# Altium integrated library Linear Technology Power Management Switching Regulator LTC1174-LTC3901.IntLib: 2647 symbols (part 121 of 364)
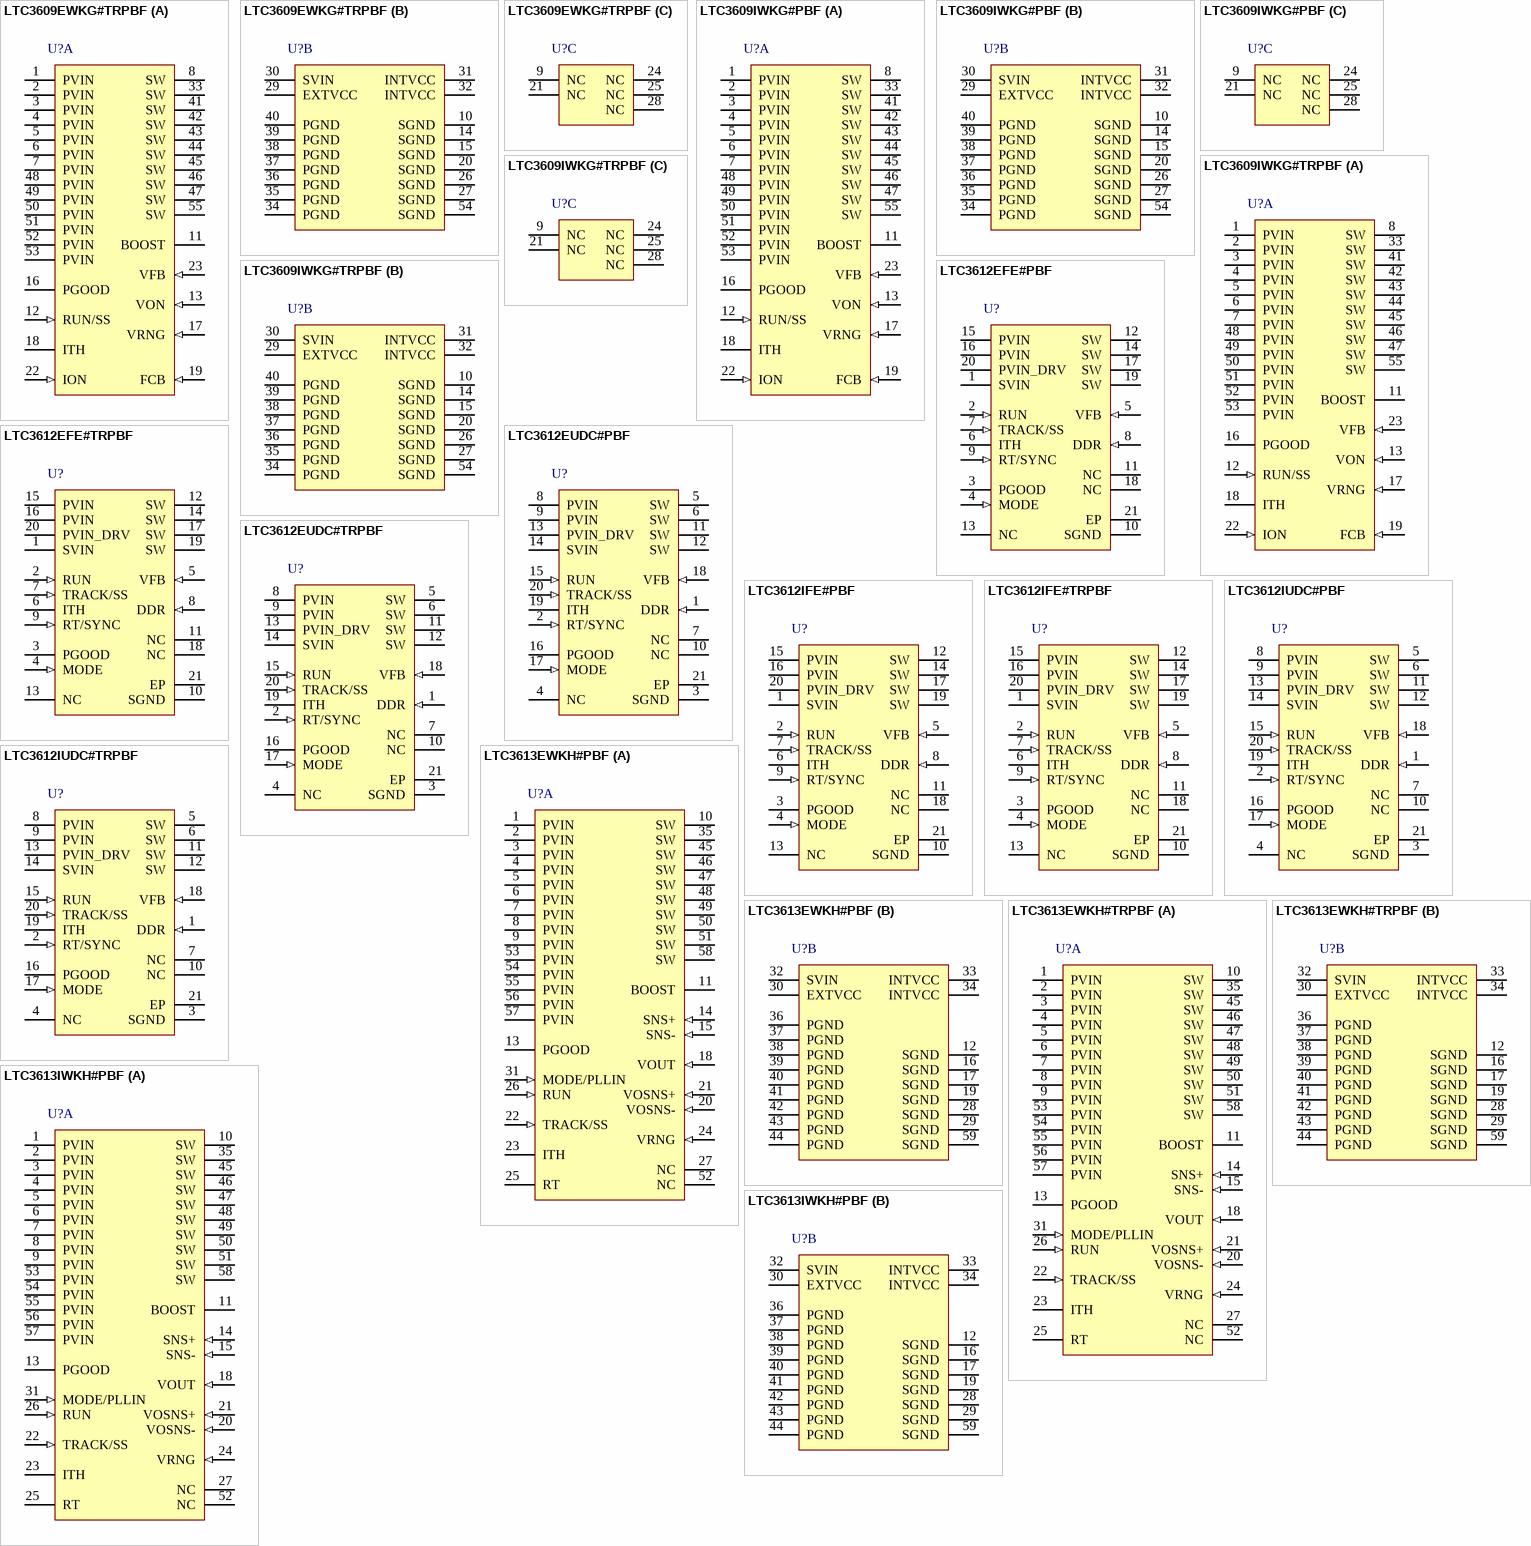
[diagram p177: symbols LTC3609EWKG#TRPBF to LTC3613IWKH#PBF]

## LTC3613EWKH#TRPBF
designator U?
15 A Monolithic Step Down Regulator with Differential Output Sensing, 56-pin QFN (WKH-56), -40 to 125 degC, Pb-Free, Tape and Reel; Manufacturer: Linear Technology; PartNumber: LTC3613EWKH#TRPBF; Frequency Adjust Range: 200kHz - 1MHz; Number of Outputs: 1; DatasheetVersion: Rev. A; PackageVersion: Rev. Ø, 03/2012; PackageReference: WKH-56; PackageDescription: 56-Pin QFN Multipad, Body 9 x 7 mm, Pitch 0.5 mm; Supplier 1: Digi-Key; Supplier Part Number 1: LTC3613EWKH#TRPBF-ND; Packing: Tape and Reel; RoHS: TRUE; Mounting Technology: Surface Mount; Code_JEDEC: SPP-002; ComponentLink1Description: Manufacturer URL; ComponentLink1URL: http://www.linear.com/; ComponentLink2Description: Datasheet; ComponentLink2URL: http://cds.linear.com/docs/en/datasheet/3613fa.pdf; ComponentLink3Description: Package Specification; ComponentLink3URL: http://cds.linear.com/docs/en/packaging/(WKH%2056)%20QFN%2005-08-1870%20Rev%20%C3%98.pdf
footprint LT-WKH-56_V (QFN, 56-Leads, Body 9x7mm, Pitch 0.5mm)
part A pins: 1 PVIN (power) "Power Supply Inputs. These pins connect to the drain of the internal power MOSFETS. The PVIN exposed pad must be soldered to the circuit board for electrical contact and rated thermal performance. The supply voltage can (See Datasheet)", 2 PVIN (power) "Power Supply Inputs. These pins connect to the drain of the internal power MOSFETS. The PVIN exposed pad must be soldered to the circuit board for electrical contact and rated thermal performance. The supply voltage can (See Datasheet)", 3 PVIN (power) "Power Supply Inputs. These pins connect to the drain of the internal power MOSFETS. The PVIN exposed pad must be soldered to the circuit board for electrical contact and rated thermal performance. The supply voltage can (See Datasheet)", 4 PVIN (power) "Power Supply Inputs. These pins connect to the drain of the internal power MOSFETS. The PVIN exposed pad must be soldered to the circuit board for electrical contact and rated thermal performance. The supply voltage can (See Datasheet)", 5 PVIN (power) "Power Supply Inputs. These pins connect to the drain of the internal power MOSFETS. The PVIN exposed pad must be soldered to the circuit board for electrical contact and rated thermal performance. The supply voltage can (See Datasheet)", 6 PVIN (power) "Power Supply Inputs. These pins connect to the drain of the internal power MOSFETS. The PVIN exposed pad must be soldered to the circuit board for electrical contact and rated thermal performance. The supply voltage can (See Datasheet)", 7 PVIN (power) "Power Supply Inputs. These pins connect to the drain of the internal power MOSFETS. The PVIN exposed pad must be soldered to the circuit board for electrical contact and rated thermal performance. The supply voltage can (See Datasheet)", 8 PVIN (power) "Power Supply Inputs. These pins connect to the drain of the internal power MOSFETS. The PVIN exposed pad must be soldered to the circuit board for electrical contact and rated thermal performance. The supply voltage can (See Datasheet)", 9 PVIN (power) "Power Supply Inputs. These pins connect to the drain of the internal power MOSFETS. The PVIN exposed pad must be soldered to the circuit board for electrical contact and rated thermal performance. The supply voltage can (See Datasheet)", 10 SW (power) "Switch Node Connection. The (-) terminal of the bootstrap capacitor, CB, connects to this node. This pin swings from a diode voltage below ground up to VIN. The SW exposed pad must be soldered to the circuit board for (See Datasheet)", 11 BOOST "Boosted Driver Supply Connection. The (+) terminal of the bootstrap capacitor, CB, as well as the cathode of the Schottky diode, DB, connects to this node. This node swings from INTVCC - VSCHOTTKY to VIN + INTVCC - VSCHOTTKY.", 13 PGOOD (oc) "Power Good Indicator Output. This open-drain logic output is pulled to ground when the output voltage is outside of a +/-7.5% window around the regulation point.", 14 SNS+ (in) "Differential Current Sensing (+) Input. For RSENSE current sensing, Kelvin (4-wire) connect SENSE+ and SENSE- pins across the sense resistor. For DCR sensing, Kelvin connect SENSE+ and SENSE- pins across the sense filter (See Datasheet)", 15 SNS- (in) "Differential Current Sensing (-) Input. For RSENSE current sensing, Kelvin (4-wire) connect the SENSE+ and SENSE- pins across the sense resistor. For DCR sensing, Kelvin connect the SENSE+ and SENSE- pins across the sense (See Datasheet)", 18 VOUT (in) "Output voltage sense for adjusting the on-time for constant frequency operation. Tying this pin to the local output (instead of the remote output) is recommended for most applications. This pin can be programmed as needed (See Datasheet)", 20 VOSNS- (in) "Differential Output Sensing (-) Input. Connect this pin to the negative terminal of the output capacitor. There is a bias current of 35uA (typical) flowing out of this pin.", 21 VOSNS+ (in) "Differential Output Sensing (+) Input. Connect this pin to the feedback resistor divider between the positive and negative output capacitor terminals. In normal operation the LTC3613 will regulate the differential output (See Datasheet)", 22 TRACK/SS (in) "External Tracking and Soft-Start Input. The LTC3613 regulates the differential feedback voltage (VOSNS + - VOSNS -) to the smaller of 0.6V or the voltage on the TRACK/SS pin. An internal 1.0uA pull-up current source i(See Datasheet)", 23 ITH "Current Control Voltage and Switching Regulator Compensation Point. The current sense threshold increases with this control voltage which ranges from 0V to 2.4V.", 24 VRNG (in) "Current Sense Voltage Range Input. The maximum allowed sense voltage between SENSE+ and SENSE- is equal to 0.05 ? VRNG. If VRNG is tied to SGND, the device operates with a maximum sense voltage of 30mV. If VRNG is tied t(See Datasheet)", 25 RT "Switching Frequency Programming Pin. Connect an external resistor from RT to signal ground to program the switching frequency between 200kHz and 1MHz. An external clock applied to MODE/PLLIN must be within +/-30% of this (See Datasheet)", 26 RUN (in) "Digital Run Control Input. RUN self biases high with an internal 1.3uA pull-up. Forcing RUN below 1.2V disables switching. Taking RUN below 0.75V shuts down all bias and places the LTC3613 into micropower shutdown mode of (See Datasheet)", 27 NC, 31 MODE/PLLIN (in) "External Clock Synchronization Input and/or Forced Continuous Mode Input. When an external clock is applied to this pin, the rising switching cycle will be synchronized with the rising edge of the external clock. (See Datasheet)", 35 SW (power) "Switch Node Connection. The (-) terminal of the bootstrap capacitor, CB, connects to this node. This pin swings from a diode voltage below ground up to VIN. The SW exposed pad must be soldered to the circuit board for (See Datasheet)", 45 SW (power) "Switch Node Connection. The (-) terminal of the bootstrap capacitor, CB, connects to this node. This pin swings from a diode voltage below ground up to VIN. The SW exposed pad must be soldered to the circuit board for (See Datasheet)", 46 SW (power) "Switch Node Connection. The (-) terminal of the bootstrap capacitor, CB, connects to this node. This pin swings from a diode voltage below ground up to VIN. The SW exposed pad must be soldered to the circuit board for (See Datasheet)", 47 SW (power) "Switch Node Connection. The (-) terminal of the bootstrap capacitor, CB, connects to this node. This pin swings from a diode voltage below ground up to VIN. The SW exposed pad must be soldered to the circuit board for (See Datasheet)", 48 SW (power) "Switch Node Connection. The (-) terminal of the bootstrap capacitor, CB, connects to this node. This pin swings from a diode voltage below ground up to VIN. The SW exposed pad must be soldered to the circuit board for (See Datasheet)", 49 SW (power) "Switch Node Connection. The (-) terminal of the bootstrap capacitor, CB, connects to this node. This pin swings from a diode voltage below ground up to VIN. The SW exposed pad must be soldered to the circuit board for (See Datasheet)", 50 SW (power) "Switch Node Connection. The (-) terminal of the bootstrap capacitor, CB, connects to this node. This pin swings from a diode voltage below ground up to VIN. The SW exposed pad must be soldered to the circuit board for (See Datasheet)", 51 SW (power) "Switch Node Connection. The (-) terminal of the bootstrap capacitor, CB, connects to this node. This pin swings from a diode voltage below ground up to VIN. The SW exposed pad must be soldered to the circuit board for (See Datasheet)", 52 NC, 53 PVIN (power) "Power Supply Inputs. These pins connect to the drain of the internal power MOSFETS. The PVIN exposed pad must be soldered to the circuit board for electrical contact and rated thermal performance. The supply voltage can (See Datasheet)", 54 PVIN (power) "Power Supply Inputs. These pins connect to the drain of the internal power MOSFETS. The PVIN exposed pad must be soldered to the circuit board for electrical contact and rated thermal performance. The supply voltage can (See Datasheet)", 55 PVIN (power) "Power Supply Inputs. These pins connect to the drain of the internal power MOSFETS. The PVIN exposed pad must be soldered to the circuit board for electrical contact and rated thermal performance. The supply voltage can (See Datasheet)", 56 PVIN (power) "Power Supply Inputs. These pins connect to the drain of the internal power MOSFETS. The PVIN exposed pad must be soldered to the circuit board for electrical contact and rated thermal performance. The supply voltage can (See Datasheet)", 57 PVIN (power) "Power Supply Inputs. These pins connect to the drain of the internal power MOSFETS. The PVIN exposed pad must be soldered to the circuit board for electrical contact and rated thermal performance. The supply voltage can (See Datasheet)", 58 SW (power) "Switch Node Connection. The (-) terminal of the bootstrap capacitor, CB, connects to this node. This pin swings from a diode voltage below ground up to VIN. The SW exposed pad must be soldered to the circuit board for (See Datasheet)"
part B pins: 12 SGND (power) "Signal Ground Connection. The SGND exposed pad must be soldered to the circuit board for electrical contact and rated thermal performance. All small-signal components should be connected to the signal ground. Connect signal (See Datasheet)", 16 SGND (power) "Signal Ground Connection. The SGND exposed pad must be soldered to the circuit board for electrical contact and rated thermal performance. All small-signal components should be connected to the signal ground. Connect signal (See Datasheet)", 17 SGND (power) "Signal Ground Connection. The SGND exposed pad must be soldered to the circuit board for electrical contact and rated thermal performance. All small-signal components should be connected to the signal ground. Connect signal (See Datasheet)", 19 SGND (power) "Signal Ground Connection. The SGND exposed pad must be soldered to the circuit board for electrical contact and rated thermal performance. All small-signal components should be connected to the signal ground. Connect signal (See Datasheet)", 28 SGND (power) "Signal Ground Connection. The SGND exposed pad must be soldered to the circuit board for electrical contact and rated thermal performance. All small-signal components should be connected to the signal ground. Connect signal (See Datasheet)", 29 SGND (power) "Signal Ground Connection. The SGND exposed pad must be soldered to the circuit board for electrical contact and rated thermal performance. All small-signal components should be connected to the signal ground. Connect signal (See Datasheet)", 30 EXTVCC (power) "External VCC Input. When EXTVCC exceeds 4.6V, an internal switch connects this pin to INTVCC and shuts down the internal regulator so that the controller and gate drive power is drawn from EXTVCC. EXTVCC should not exceed (See Datasheet)", 32 SVIN (power) "Signal Input Supply. This pin powers the internal control circuitry.", 33 INTVCC (power) "Internal 5.3V Regulator Output. The driver and control circuits are powered from this voltage. Decouple this pin to power ground with a minimum of 4.7uF ceramic capacitor (CVCC). The anode of the Schottky diode, DB, connects (See Datasheet)", 34 INTVCC (power) "Internal 5.3V Regulator Output. The driver and control circuits are powered from this voltage. Decouple this pin to power ground with a minimum of 4.7uF ceramic capacitor (CVCC). The anode of the Schottky diode, DB, connects (See Datasheet)", 36 PGND (power) "Power Ground Connection. Connect this pin as close as practical to the (-) terminal of CVCC and the (-) terminal of CIN.", 37 PGND (power) "Power Ground Connection. Connect this pin as close as practical to the (-) terminal of CVCC and the (-) terminal of CIN.", 38 PGND (power) "Power Ground Connection. Connect this pin as close as practical to the (-) terminal of CVCC and the (-) terminal of CIN.", 39 PGND (power) "Power Ground Connection. Connect this pin as close as practical to the (-) terminal of CVCC and the (-) terminal of CIN.", 40 PGND (power) "Power Ground Connection. Connect this pin as close as practical to the (-) terminal of CVCC and the (-) terminal of CIN.", 41 PGND (power) "Power Ground Connection. Connect this pin as close as practical to the (-) terminal of CVCC and the (-) terminal of CIN.", 42 PGND (power) "Power Ground Connection. Connect this pin as close as practical to the (-) terminal of CVCC and the (-) terminal of CIN.", 43 PGND (power) "Power Ground Connection. Connect this pin as close as practical to the (-) terminal of CVCC and the (-) terminal of CIN.", 44 PGND (power) "Power Ground Connection. Connect this pin as close as practical to the (-) terminal of CVCC and the (-) terminal of CIN.", 59 SGND (power) "Signal Ground Connection. The SGND exposed pad must be soldered to the circuit board for electrical contact and rated thermal performance. All small-signal components should be connected to the signal ground. Connect signal (See Datasheet)"

## LTC3613IWKH#PBF
designator U?
15 A Monolithic Step Down Regulator with Differential Output Sensing, 56-pin QFN (WKH-56), -40 to 125 degC, Pb-Free; Manufacturer: Linear Technology; PartNumber: LTC3613IWKH#PBF; Frequency Adjust Range: 200kHz - 1MHz; Number of Outputs: 1; DatasheetVersion: Rev. A; PackageVersion: Rev. Ø, 03/2012; PackageReference: WKH-56; PackageDescription: 56-Pin QFN Multipad, Body 9 x 7 mm, Pitch 0.5 mm; Supplier 1: Digi-Key; Supplier Part Number 1: LTC3613IWKH#PBF-ND; Supplier 2: Newark; Supplier Part Number 2: 78T3232; RoHS: TRUE; Mounting Technology: Surface Mount; Code_JEDEC: SPP-002; ComponentLink1Description: Manufacturer URL; ComponentLink1URL: http://www.linear.com/; ComponentLink2Description: Datasheet; ComponentLink2URL: http://cds.linear.com/docs/en/datasheet/3613fa.pdf; ComponentLink3Description: Package Specification; ComponentLink3URL: http://cds.linear.com/docs/en/packaging/(WKH%2056)%20QFN%2005-08-1870%20Rev%20%C3%98.pdf
footprint LT-WKH-56_V (QFN, 56-Leads, Body 9x7mm, Pitch 0.5mm)
part A pins: 1 PVIN (power) "Power Supply Inputs. These pins connect to the drain of the internal power MOSFETS. The PVIN exposed pad must be soldered to the circuit board for electrical contact and rated thermal performance. The supply voltage can (See Datasheet)", 2 PVIN (power) "Power Supply Inputs. These pins connect to the drain of the internal power MOSFETS. The PVIN exposed pad must be soldered to the circuit board for electrical contact and rated thermal performance. The supply voltage can (See Datasheet)", 3 PVIN (power) "Power Supply Inputs. These pins connect to the drain of the internal power MOSFETS. The PVIN exposed pad must be soldered to the circuit board for electrical contact and rated thermal performance. The supply voltage can (See Datasheet)", 4 PVIN (power) "Power Supply Inputs. These pins connect to the drain of the internal power MOSFETS. The PVIN exposed pad must be soldered to the circuit board for electrical contact and rated thermal performance. The supply voltage can (See Datasheet)", 5 PVIN (power) "Power Supply Inputs. These pins connect to the drain of the internal power MOSFETS. The PVIN exposed pad must be soldered to the circuit board for electrical contact and rated thermal performance. The supply voltage can (See Datasheet)", 6 PVIN (power) "Power Supply Inputs. These pins connect to the drain of the internal power MOSFETS. The PVIN exposed pad must be soldered to the circuit board for electrical contact and rated thermal performance. The supply voltage can (See Datasheet)", 7 PVIN (power) "Power Supply Inputs. These pins connect to the drain of the internal power MOSFETS. The PVIN exposed pad must be soldered to the circuit board for electrical contact and rated thermal performance. The supply voltage can (See Datasheet)", 8 PVIN (power) "Power Supply Inputs. These pins connect to the drain of the internal power MOSFETS. The PVIN exposed pad must be soldered to the circuit board for electrical contact and rated thermal performance. The supply voltage can (See Datasheet)", 9 PVIN (power) "Power Supply Inputs. These pins connect to the drain of the internal power MOSFETS. The PVIN exposed pad must be soldered to the circuit board for electrical contact and rated thermal performance. The supply voltage can (See Datasheet)", 10 SW (power) "Switch Node Connection. The (-) terminal of the bootstrap capacitor, CB, connects to this node. This pin swings from a diode voltage below ground up to VIN. The SW exposed pad must be soldered to the circuit board for (See Datasheet)", 11 BOOST "Boosted Driver Supply Connection. The (+) terminal of the bootstrap capacitor, CB, as well as the cathode of the Schottky diode, DB, connects to this node. This node swings from INTVCC - VSCHOTTKY to VIN + INTVCC - VSCHOTTKY.", 13 PGOOD (oc) "Power Good Indicator Output. This open-drain logic output is pulled to ground when the output voltage is outside of a +/-7.5% window around the regulation point.", 14 SNS+ (in) "Differential Current Sensing (+) Input. For RSENSE current sensing, Kelvin (4-wire) connect SENSE+ and SENSE- pins across the sense resistor. For DCR sensing, Kelvin connect SENSE+ and SENSE- pins across the sense filter (See Datasheet)", 15 SNS- (in) "Differential Current Sensing (-) Input. For RSENSE current sensing, Kelvin (4-wire) connect the SENSE+ and SENSE- pins across the sense resistor. For DCR sensing, Kelvin connect the SENSE+ and SENSE- pins across the sense (See Datasheet)", 18 VOUT (in) "Output voltage sense for adjusting the on-time for constant frequency operation. Tying this pin to the local output (instead of the remote output) is recommended for most applications. This pin can be programmed as needed (See Datasheet)", 20 VOSNS- (in) "Differential Output Sensing (-) Input. Connect this pin to the negative terminal of the output capacitor. There is a bias current of 35uA (typical) flowing out of this pin.", 21 VOSNS+ (in) "Differential Output Sensing (+) Input. Connect this pin to the feedback resistor divider between the positive and negative output capacitor terminals. In normal operation the LTC3613 will regulate the differential output (See Datasheet)", 22 TRACK/SS (in) "External Tracking and Soft-Start Input. The LTC3613 regulates the differential feedback voltage (VOSNS + - VOSNS -) to the smaller of 0.6V or the voltage on the TRACK/SS pin. An internal 1.0uA pull-up current source i(See Datasheet)", 23 ITH "Current Control Voltage and Switching Regulator Compensation Point. The current sense threshold increases with this control voltage which ranges from 0V to 2.4V.", 24 VRNG (in) "Current Sense Voltage Range Input. The maximum allowed sense voltage between SENSE+ and SENSE- is equal to 0.05 ? VRNG. If VRNG is tied to SGND, the device operates with a maximum sense voltage of 30mV. If VRNG is tied t(See Datasheet)", 25 RT "Switching Frequency Programming Pin. Connect an external resistor from RT to signal ground to program the switching frequency between 200kHz and 1MHz. An external clock applied to MODE/PLLIN must be within +/-30% of this (See Datasheet)", 26 RUN (in) "Digital Run Control Input. RUN self biases high with an internal 1.3uA pull-up. Forcing RUN below 1.2V disables switching. Taking RUN below 0.75V shuts down all bias and places the LTC3613 into micropower shutdown mode of (See Datasheet)", 27 NC, 31 MODE/PLLIN (in) "External Clock Synchronization Input and/or Forced Continuous Mode Input. When an external clock is applied to this pin, the rising switching cycle will be synchronized with the rising edge of the external clock. (See Datasheet)", 35 SW (power) "Switch Node Connection. The (-) terminal of the bootstrap capacitor, CB, connects to this node. This pin swings from a diode voltage below ground up to VIN. The SW exposed pad must be soldered to the circuit board for (See Datasheet)", 45 SW (power) "Switch Node Connection. The (-) terminal of the bootstrap capacitor, CB, connects to this node. This pin swings from a diode voltage below ground up to VIN. The SW exposed pad must be soldered to the circuit board for (See Datasheet)", 46 SW (power) "Switch Node Connection. The (-) terminal of the bootstrap capacitor, CB, connects to this node. This pin swings from a diode voltage below ground up to VIN. The SW exposed pad must be soldered to the circuit board for (See Datasheet)", 47 SW (power) "Switch Node Connection. The (-) terminal of the bootstrap capacitor, CB, connects to this node. This pin swings from a diode voltage below ground up to VIN. The SW exposed pad must be soldered to the circuit board for (See Datasheet)", 48 SW (power) "Switch Node Connection. The (-) terminal of the bootstrap capacitor, CB, connects to this node. This pin swings from a diode voltage below ground up to VIN. The SW exposed pad must be soldered to the circuit board for (See Datasheet)", 49 SW (power) "Switch Node Connection. The (-) terminal of the bootstrap capacitor, CB, connects to this node. This pin swings from a diode voltage below ground up to VIN. The SW exposed pad must be soldered to the circuit board for (See Datasheet)", 50 SW (power) "Switch Node Connection. The (-) terminal of the bootstrap capacitor, CB, connects to this node. This pin swings from a diode voltage below ground up to VIN. The SW exposed pad must be soldered to the circuit board for (See Datasheet)", 51 SW (power) "Switch Node Connection. The (-) terminal of the bootstrap capacitor, CB, connects to this node. This pin swings from a diode voltage below ground up to VIN. The SW exposed pad must be soldered to the circuit board for (See Datasheet)", 52 NC, 53 PVIN (power) "Power Supply Inputs. These pins connect to the drain of the internal power MOSFETS. The PVIN exposed pad must be soldered to the circuit board for electrical contact and rated thermal performance. The supply voltage can (See Datasheet)", 54 PVIN (power) "Power Supply Inputs. These pins connect to the drain of the internal power MOSFETS. The PVIN exposed pad must be soldered to the circuit board for electrical contact and rated thermal performance. The supply voltage can (See Datasheet)", 55 PVIN (power) "Power Supply Inputs. These pins connect to the drain of the internal power MOSFETS. The PVIN exposed pad must be soldered to the circuit board for electrical contact and rated thermal performance. The supply voltage can (See Datasheet)", 56 PVIN (power) "Power Supply Inputs. These pins connect to the drain of the internal power MOSFETS. The PVIN exposed pad must be soldered to the circuit board for electrical contact and rated thermal performance. The supply voltage can (See Datasheet)", 57 PVIN (power) "Power Supply Inputs. These pins connect to the drain of the internal power MOSFETS. The PVIN exposed pad must be soldered to the circuit board for electrical contact and rated thermal performance. The supply voltage can (See Datasheet)", 58 SW (power) "Switch Node Connection. The (-) terminal of the bootstrap capacitor, CB, connects to this node. This pin swings from a diode voltage below ground up to VIN. The SW exposed pad must be soldered to the circuit board for (See Datasheet)"
part B pins: 12 SGND (power) "Signal Ground Connection. The SGND exposed pad must be soldered to the circuit board for electrical contact and rated thermal performance. All small-signal components should be connected to the signal ground. Connect signal (See Datasheet)", 16 SGND (power) "Signal Ground Connection. The SGND exposed pad must be soldered to the circuit board for electrical contact and rated thermal performance. All small-signal components should be connected to the signal ground. Connect signal (See Datasheet)", 17 SGND (power) "Signal Ground Connection. The SGND exposed pad must be soldered to the circuit board for electrical contact and rated thermal performance. All small-signal components should be connected to the signal ground. Connect signal (See Datasheet)", 19 SGND (power) "Signal Ground Connection. The SGND exposed pad must be soldered to the circuit board for electrical contact and rated thermal performance. All small-signal components should be connected to the signal ground. Connect signal (See Datasheet)", 28 SGND (power) "Signal Ground Connection. The SGND exposed pad must be soldered to the circuit board for electrical contact and rated thermal performance. All small-signal components should be connected to the signal ground. Connect signal (See Datasheet)", 29 SGND (power) "Signal Ground Connection. The SGND exposed pad must be soldered to the circuit board for electrical contact and rated thermal performance. All small-signal components should be connected to the signal ground. Connect signal (See Datasheet)", 30 EXTVCC (power) "External VCC Input. When EXTVCC exceeds 4.6V, an internal switch connects this pin to INTVCC and shuts down the internal regulator so that the controller and gate drive power is drawn from EXTVCC. EXTVCC should not exceed (See Datasheet)", 32 SVIN (power) "Signal Input Supply. This pin powers the internal control circuitry.", 33 INTVCC (power) "Internal 5.3V Regulator Output. The driver and control circuits are powered from this voltage. Decouple this pin to power ground with a minimum of 4.7uF ceramic capacitor (CVCC). The anode of the Schottky diode, DB, connects (See Datasheet)", 34 INTVCC (power) "Internal 5.3V Regulator Output. The driver and control circuits are powered from this voltage. Decouple this pin to power ground with a minimum of 4.7uF ceramic capacitor (CVCC). The anode of the Schottky diode, DB, connects (See Datasheet)", 36 PGND (power) "Power Ground Connection. Connect this pin as close as practical to the (-) terminal of CVCC and the (-) terminal of CIN.", 37 PGND (power) "Power Ground Connection. Connect this pin as close as practical to the (-) terminal of CVCC and the (-) terminal of CIN.", 38 PGND (power) "Power Ground Connection. Connect this pin as close as practical to the (-) terminal of CVCC and the (-) terminal of CIN.", 39 PGND (power) "Power Ground Connection. Connect this pin as close as practical to the (-) terminal of CVCC and the (-) terminal of CIN.", 40 PGND (power) "Power Ground Connection. Connect this pin as close as practical to the (-) terminal of CVCC and the (-) terminal of CIN.", 41 PGND (power) "Power Ground Connection. Connect this pin as close as practical to the (-) terminal of CVCC and the (-) terminal of CIN.", 42 PGND (power) "Power Ground Connection. Connect this pin as close as practical to the (-) terminal of CVCC and the (-) terminal of CIN.", 43 PGND (power) "Power Ground Connection. Connect this pin as close as practical to the (-) terminal of CVCC and the (-) terminal of CIN.", 44 PGND (power) "Power Ground Connection. Connect this pin as close as practical to the (-) terminal of CVCC and the (-) terminal of CIN.", 59 SGND (power) "Signal Ground Connection. The SGND exposed pad must be soldered to the circuit board for electrical contact and rated thermal performance. All small-signal components should be connected to the signal ground. Connect signal (See Datasheet)"

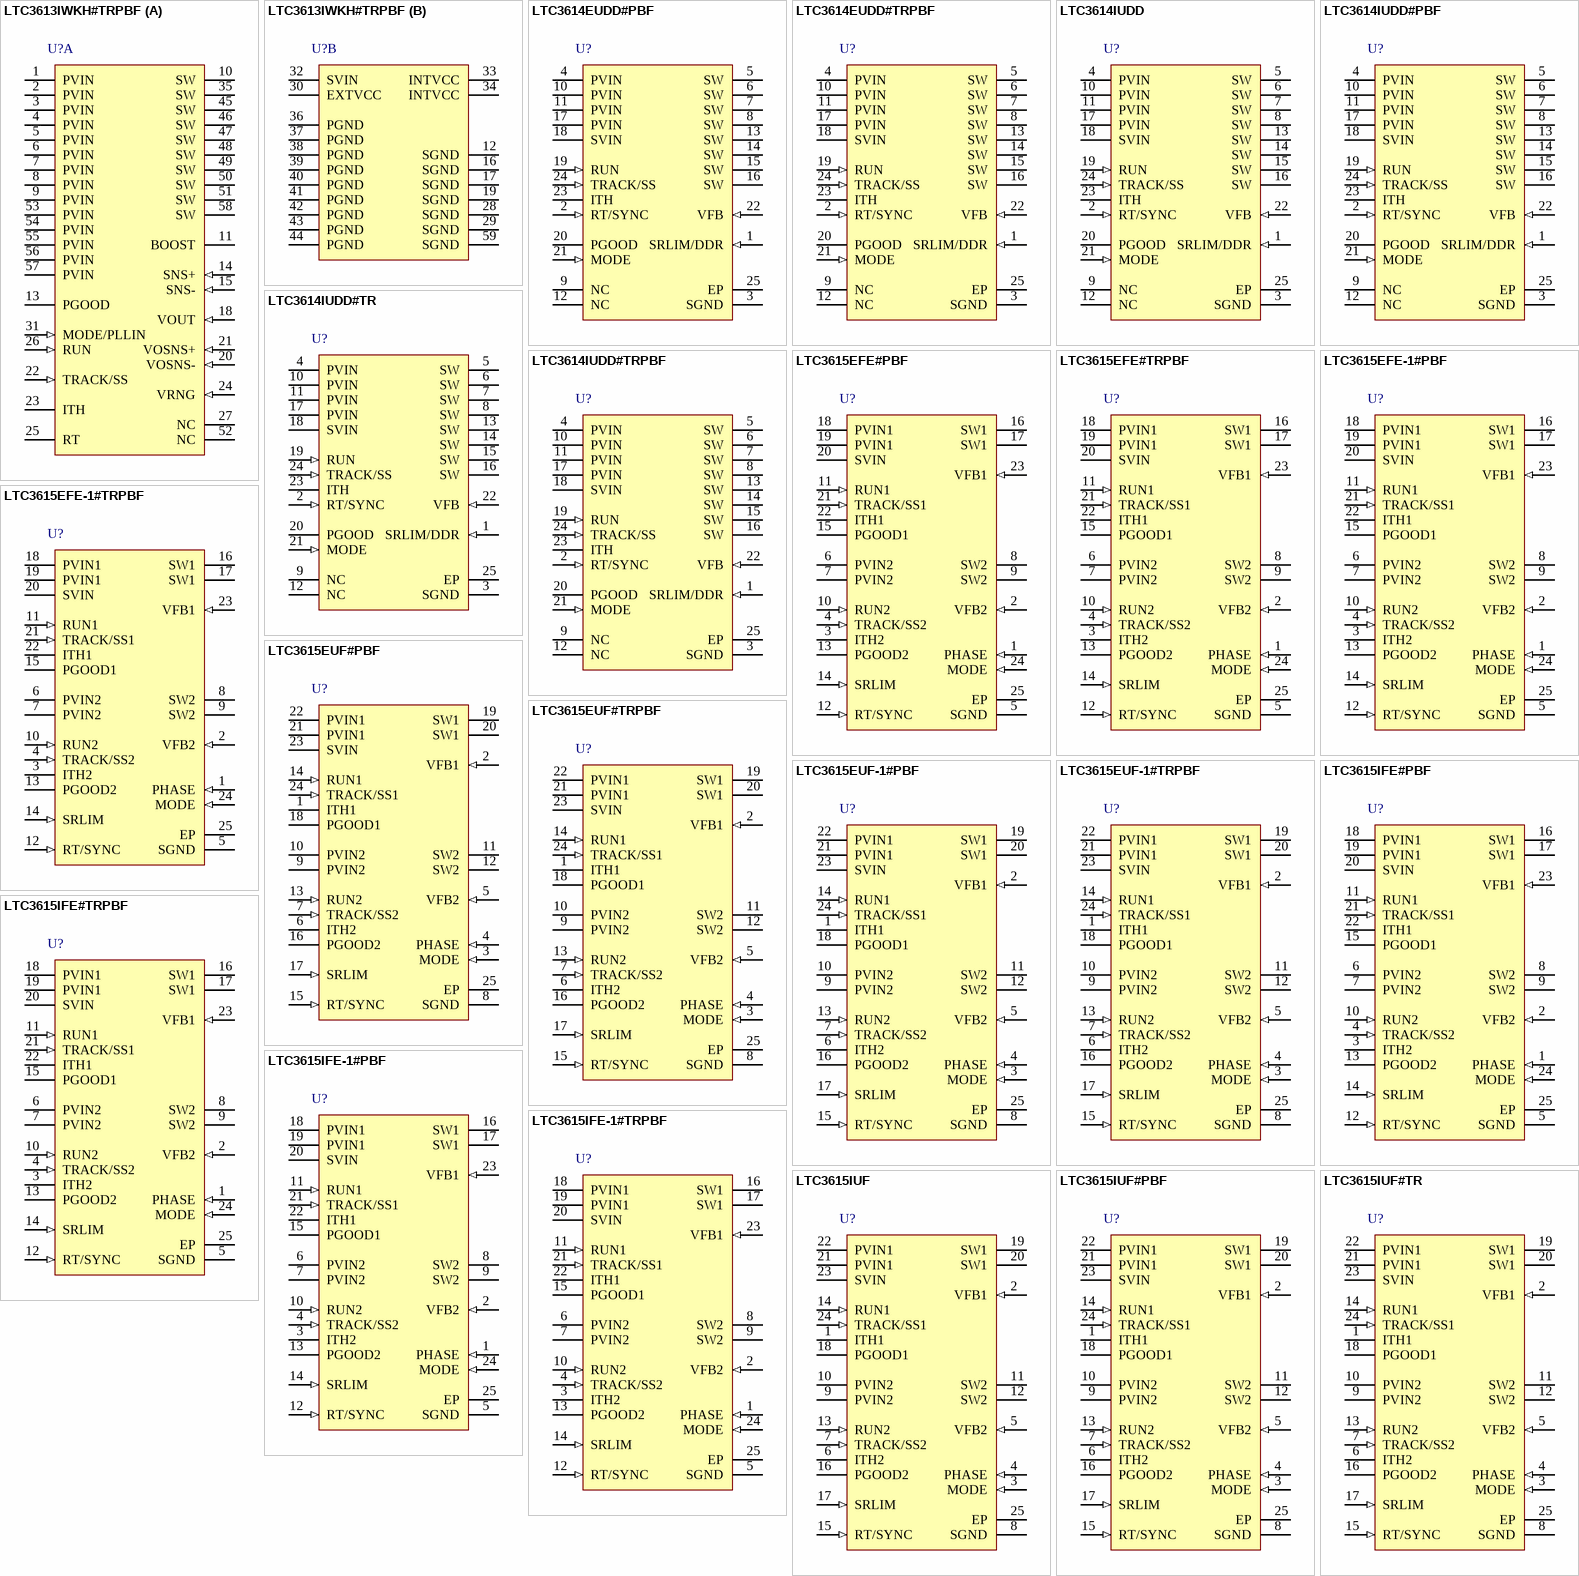
[diagram p39: symbols LTC3613IWKH#TRPBF to LTC3615IUF#TR]

## LTC3613IWKH#TRPBF
designator U?
15 A Monolithic Step Down Regulator with Differential Output Sensing, 56-pin QFN (WKH-56), -40 to 125 degC, Pb-Free, Tape and Reel; Manufacturer: Linear Technology; PartNumber: LTC3613IWKH#TRPBF; Frequency Adjust Range: 200kHz - 1MHz; Number of Outputs: 1; DatasheetVersion: Rev. A; PackageVersion: Rev. Ø, 03/2012; PackageReference: WKH-56; PackageDescription: 56-Pin QFN Multipad, Body 9 x 7 mm, Pitch 0.5 mm; Supplier 1: Digi-Key; Supplier Part Number 1: LTC3613IWKH#TRPBF-ND; Packing: Tape and Reel; RoHS: TRUE; Mounting Technology: Surface Mount; Code_JEDEC: SPP-002; ComponentLink1Description: Manufacturer URL; ComponentLink1URL: http://www.linear.com/; ComponentLink2Description: Datasheet; ComponentLink2URL: http://cds.linear.com/docs/en/datasheet/3613fa.pdf; ComponentLink3Description: Package Specification; ComponentLink3URL: http://cds.linear.com/docs/en/packaging/(WKH%2056)%20QFN%2005-08-1870%20Rev%20%C3%98.pdf
footprint LT-WKH-56_V (QFN, 56-Leads, Body 9x7mm, Pitch 0.5mm)
part A pins: 1 PVIN (power) "Power Supply Inputs. These pins connect to the drain of the internal power MOSFETS. The PVIN exposed pad must be soldered to the circuit board for electrical contact and rated thermal performance. The supply voltage can (See Datasheet)", 2 PVIN (power) "Power Supply Inputs. These pins connect to the drain of the internal power MOSFETS. The PVIN exposed pad must be soldered to the circuit board for electrical contact and rated thermal performance. The supply voltage can (See Datasheet)", 3 PVIN (power) "Power Supply Inputs. These pins connect to the drain of the internal power MOSFETS. The PVIN exposed pad must be soldered to the circuit board for electrical contact and rated thermal performance. The supply voltage can (See Datasheet)", 4 PVIN (power) "Power Supply Inputs. These pins connect to the drain of the internal power MOSFETS. The PVIN exposed pad must be soldered to the circuit board for electrical contact and rated thermal performance. The supply voltage can (See Datasheet)", 5 PVIN (power) "Power Supply Inputs. These pins connect to the drain of the internal power MOSFETS. The PVIN exposed pad must be soldered to the circuit board for electrical contact and rated thermal performance. The supply voltage can (See Datasheet)", 6 PVIN (power) "Power Supply Inputs. These pins connect to the drain of the internal power MOSFETS. The PVIN exposed pad must be soldered to the circuit board for electrical contact and rated thermal performance. The supply voltage can (See Datasheet)", 7 PVIN (power) "Power Supply Inputs. These pins connect to the drain of the internal power MOSFETS. The PVIN exposed pad must be soldered to the circuit board for electrical contact and rated thermal performance. The supply voltage can (See Datasheet)", 8 PVIN (power) "Power Supply Inputs. These pins connect to the drain of the internal power MOSFETS. The PVIN exposed pad must be soldered to the circuit board for electrical contact and rated thermal performance. The supply voltage can (See Datasheet)", 9 PVIN (power) "Power Supply Inputs. These pins connect to the drain of the internal power MOSFETS. The PVIN exposed pad must be soldered to the circuit board for electrical contact and rated thermal performance. The supply voltage can (See Datasheet)", 10 SW (power) "Switch Node Connection. The (-) terminal of the bootstrap capacitor, CB, connects to this node. This pin swings from a diode voltage below ground up to VIN. The SW exposed pad must be soldered to the circuit board for (See Datasheet)", 11 BOOST "Boosted Driver Supply Connection. The (+) terminal of the bootstrap capacitor, CB, as well as the cathode of the Schottky diode, DB, connects to this node. This node swings from INTVCC - VSCHOTTKY to VIN + INTVCC - VSCHOTTKY.", 13 PGOOD (oc) "Power Good Indicator Output. This open-drain logic output is pulled to ground when the output voltage is outside of a +/-7.5% window around the regulation point.", 14 SNS+ (in) "Differential Current Sensing (+) Input. For RSENSE current sensing, Kelvin (4-wire) connect SENSE+ and SENSE- pins across the sense resistor. For DCR sensing, Kelvin connect SENSE+ and SENSE- pins across the sense filter (See Datasheet)", 15 SNS- (in) "Differential Current Sensing (-) Input. For RSENSE current sensing, Kelvin (4-wire) connect the SENSE+ and SENSE- pins across the sense resistor. For DCR sensing, Kelvin connect the SENSE+ and SENSE- pins across the sense (See Datasheet)", 18 VOUT (in) "Output voltage sense for adjusting the on-time for constant frequency operation. Tying this pin to the local output (instead of the remote output) is recommended for most applications. This pin can be programmed as needed (See Datasheet)", 20 VOSNS- (in) "Differential Output Sensing (-) Input. Connect this pin to the negative terminal of the output capacitor. There is a bias current of 35uA (typical) flowing out of this pin.", 21 VOSNS+ (in) "Differential Output Sensing (+) Input. Connect this pin to the feedback resistor divider between the positive and negative output capacitor terminals. In normal operation the LTC3613 will regulate the differential output (See Datasheet)", 22 TRACK/SS (in) "External Tracking and Soft-Start Input. The LTC3613 regulates the differential feedback voltage (VOSNS + - VOSNS -) to the smaller of 0.6V or the voltage on the TRACK/SS pin. An internal 1.0uA pull-up current source i(See Datasheet)", 23 ITH "Current Control Voltage and Switching Regulator Compensation Point. The current sense threshold increases with this control voltage which ranges from 0V to 2.4V.", 24 VRNG (in) "Current Sense Voltage Range Input. The maximum allowed sense voltage between SENSE+ and SENSE- is equal to 0.05 ? VRNG. If VRNG is tied to SGND, the device operates with a maximum sense voltage of 30mV. If VRNG is tied t(See Datasheet)", 25 RT "Switching Frequency Programming Pin. Connect an external resistor from RT to signal ground to program the switching frequency between 200kHz and 1MHz. An external clock applied to MODE/PLLIN must be within +/-30% of this (See Datasheet)", 26 RUN (in) "Digital Run Control Input. RUN self biases high with an internal 1.3uA pull-up. Forcing RUN below 1.2V disables switching. Taking RUN below 0.75V shuts down all bias and places the LTC3613 into micropower shutdown mode of (See Datasheet)", 27 NC, 31 MODE/PLLIN (in) "External Clock Synchronization Input and/or Forced Continuous Mode Input. When an external clock is applied to this pin, the rising switching cycle will be synchronized with the rising edge of the external clock. (See Datasheet)", 35 SW (power) "Switch Node Connection. The (-) terminal of the bootstrap capacitor, CB, connects to this node. This pin swings from a diode voltage below ground up to VIN. The SW exposed pad must be soldered to the circuit board for (See Datasheet)", 45 SW (power) "Switch Node Connection. The (-) terminal of the bootstrap capacitor, CB, connects to this node. This pin swings from a diode voltage below ground up to VIN. The SW exposed pad must be soldered to the circuit board for (See Datasheet)", 46 SW (power) "Switch Node Connection. The (-) terminal of the bootstrap capacitor, CB, connects to this node. This pin swings from a diode voltage below ground up to VIN. The SW exposed pad must be soldered to the circuit board for (See Datasheet)", 47 SW (power) "Switch Node Connection. The (-) terminal of the bootstrap capacitor, CB, connects to this node. This pin swings from a diode voltage below ground up to VIN. The SW exposed pad must be soldered to the circuit board for (See Datasheet)", 48 SW (power) "Switch Node Connection. The (-) terminal of the bootstrap capacitor, CB, connects to this node. This pin swings from a diode voltage below ground up to VIN. The SW exposed pad must be soldered to the circuit board for (See Datasheet)", 49 SW (power) "Switch Node Connection. The (-) terminal of the bootstrap capacitor, CB, connects to this node. This pin swings from a diode voltage below ground up to VIN. The SW exposed pad must be soldered to the circuit board for (See Datasheet)", 50 SW (power) "Switch Node Connection. The (-) terminal of the bootstrap capacitor, CB, connects to this node. This pin swings from a diode voltage below ground up to VIN. The SW exposed pad must be soldered to the circuit board for (See Datasheet)", 51 SW (power) "Switch Node Connection. The (-) terminal of the bootstrap capacitor, CB, connects to this node. This pin swings from a diode voltage below ground up to VIN. The SW exposed pad must be soldered to the circuit board for (See Datasheet)", 52 NC, 53 PVIN (power) "Power Supply Inputs. These pins connect to the drain of the internal power MOSFETS. The PVIN exposed pad must be soldered to the circuit board for electrical contact and rated thermal performance. The supply voltage can (See Datasheet)", 54 PVIN (power) "Power Supply Inputs. These pins connect to the drain of the internal power MOSFETS. The PVIN exposed pad must be soldered to the circuit board for electrical contact and rated thermal performance. The supply voltage can (See Datasheet)", 55 PVIN (power) "Power Supply Inputs. These pins connect to the drain of the internal power MOSFETS. The PVIN exposed pad must be soldered to the circuit board for electrical contact and rated thermal performance. The supply voltage can (See Datasheet)", 56 PVIN (power) "Power Supply Inputs. These pins connect to the drain of the internal power MOSFETS. The PVIN exposed pad must be soldered to the circuit board for electrical contact and rated thermal performance. The supply voltage can (See Datasheet)", 57 PVIN (power) "Power Supply Inputs. These pins connect to the drain of the internal power MOSFETS. The PVIN exposed pad must be soldered to the circuit board for electrical contact and rated thermal performance. The supply voltage can (See Datasheet)", 58 SW (power) "Switch Node Connection. The (-) terminal of the bootstrap capacitor, CB, connects to this node. This pin swings from a diode voltage below ground up to VIN. The SW exposed pad must be soldered to the circuit board for (See Datasheet)"
part B pins: 12 SGND (power) "Signal Ground Connection. The SGND exposed pad must be soldered to the circuit board for electrical contact and rated thermal performance. All small-signal components should be connected to the signal ground. Connect signal (See Datasheet)", 16 SGND (power) "Signal Ground Connection. The SGND exposed pad must be soldered to the circuit board for electrical contact and rated thermal performance. All small-signal components should be connected to the signal ground. Connect signal (See Datasheet)", 17 SGND (power) "Signal Ground Connection. The SGND exposed pad must be soldered to the circuit board for electrical contact and rated thermal performance. All small-signal components should be connected to the signal ground. Connect signal (See Datasheet)", 19 SGND (power) "Signal Ground Connection. The SGND exposed pad must be soldered to the circuit board for electrical contact and rated thermal performance. All small-signal components should be connected to the signal ground. Connect signal (See Datasheet)", 28 SGND (power) "Signal Ground Connection. The SGND exposed pad must be soldered to the circuit board for electrical contact and rated thermal performance. All small-signal components should be connected to the signal ground. Connect signal (See Datasheet)", 29 SGND (power) "Signal Ground Connection. The SGND exposed pad must be soldered to the circuit board for electrical contact and rated thermal performance. All small-signal components should be connected to the signal ground. Connect signal (See Datasheet)", 30 EXTVCC (power) "External VCC Input. When EXTVCC exceeds 4.6V, an internal switch connects this pin to INTVCC and shuts down the internal regulator so that the controller and gate drive power is drawn from EXTVCC. EXTVCC should not exceed (See Datasheet)", 32 SVIN (power) "Signal Input Supply. This pin powers the internal control circuitry.", 33 INTVCC (power) "Internal 5.3V Regulator Output. The driver and control circuits are powered from this voltage. Decouple this pin to power ground with a minimum of 4.7uF ceramic capacitor (CVCC). The anode of the Schottky diode, DB, connects (See Datasheet)", 34 INTVCC (power) "Internal 5.3V Regulator Output. The driver and control circuits are powered from this voltage. Decouple this pin to power ground with a minimum of 4.7uF ceramic capacitor (CVCC). The anode of the Schottky diode, DB, connects (See Datasheet)", 36 PGND (power) "Power Ground Connection. Connect this pin as close as practical to the (-) terminal of CVCC and the (-) terminal of CIN.", 37 PGND (power) "Power Ground Connection. Connect this pin as close as practical to the (-) terminal of CVCC and the (-) terminal of CIN.", 38 PGND (power) "Power Ground Connection. Connect this pin as close as practical to the (-) terminal of CVCC and the (-) terminal of CIN.", 39 PGND (power) "Power Ground Connection. Connect this pin as close as practical to the (-) terminal of CVCC and the (-) terminal of CIN.", 40 PGND (power) "Power Ground Connection. Connect this pin as close as practical to the (-) terminal of CVCC and the (-) terminal of CIN.", 41 PGND (power) "Power Ground Connection. Connect this pin as close as practical to the (-) terminal of CVCC and the (-) terminal of CIN.", 42 PGND (power) "Power Ground Connection. Connect this pin as close as practical to the (-) terminal of CVCC and the (-) terminal of CIN.", 43 PGND (power) "Power Ground Connection. Connect this pin as close as practical to the (-) terminal of CVCC and the (-) terminal of CIN.", 44 PGND (power) "Power Ground Connection. Connect this pin as close as practical to the (-) terminal of CVCC and the (-) terminal of CIN.", 59 SGND (power) "Signal Ground Connection. The SGND exposed pad must be soldered to the circuit board for electrical contact and rated thermal performance. All small-signal components should be connected to the signal ground. Connect signal (See Datasheet)"

## LTC3614EUDD#PBF
designator U?
4 A, 4 MHz Monolithic Synchronous Step-Down DC/DC Converter, 24-pin QFN (UDD-24), -40 to 125 degC, Pb-Free; Manufacturer: Linear Technology; PartNumber: LTC3614EUDD#PBF; Frequency Adjust Range: Up - 4MHz; Number of Outputs: 1; DatasheetVersion: Rev. A; PackageVersion: Rev. Ø, 05/2011; PackageReference: UDD-24; PackageDescription: 24-Pin Plastic QFN, Body 5 x 3 mm, Pitch 0.5 mm; Supplier 1: Digi-Key; Supplier Part Number 1: LTC3614EUDD#PBF-ND; Supplier 2: Farnell; Supplier Part Number 2: 1799846; Supplier 3: Newark; Supplier Part Number 3: 71R4678; RoHS: TRUE; Mounting Technology: Surface Mount; ComponentLink1Description: Manufacturer URL; ComponentLink1URL: http://www.linear.com/; ComponentLink2Description: Datasheet; ComponentLink2URL: http://cds.linear.com/docs/en/datasheet/3614fa.pdf; ComponentLink3Description: Package Specification; ComponentLink3URL: http://cds.linear.com/docs/en/packaging/(UDD24)%20QFN%2005-08-1833%20Rev%20%C3%98.pdf
footprint LT-UDD-24_N (QFN, 24-Leads, Body 5.1x3.1mm, Pitch 0.5mm, Thermal Pad 3.65x1.65mm, IPC Medium Density)
footprint LT-UDD-24_L (QFN, 24-Leads, Body 5.1x3.1mm, Pitch 0.5mm, Thermal Pad 3.65x1.65mm, IPC High Density)
footprint LT-UDD-24_M (QFN, 24-Leads, Body 5.1x3.1mm, Pitch 0.5mm, Thermal Pad 3.65x1.65mm, IPC Low Density)
pins: 1 SRLIM/DDR (in) "Slew Rate Limit. Tying this pin to ground selects maximum slew rate. Minimum slew rate is selected when the pin is open. Connecting a resistor from SRLIM/DDR to ground allows the slew rate to be continuously adjusted. If (See Datasheet)", 2 RT/SYNC (in), 3 SGND (power) "Signal Ground. All small-signal and compensation components should connect to this ground, which in turn should connect to PGND at a single point.", 4 PVIN (power) "Power Input Supply. PVIN connects to the source of the internal P-channel power MOSFET. This pin is independent of SVIN and may be connected to the same voltage or to a lower voltage supply.", 5 SW (power) "Switch Node. Connection to the inductor. These pins connect to the drains of the internal synchronous power MOSFET switches.", 6 SW (power) "Switch Node. Connection to the inductor. These pins connect to the drains of the internal synchronous power MOSFET switches.", 7 SW (power) "Switch Node. Connection to the inductor. These pins connect to the drains of the internal synchronous power MOSFET switches.", 8 SW (power) "Switch Node. Connection to the inductor. These pins connect to the drains of the internal synchronous power MOSFET switches.", 9 NC "Can be connected to ground or left open.", 10 PVIN (power) "Power Input Supply. PVIN connects to the source of the internal P-channel power MOSFET. This pin is independent of SVIN and may be connected to the same voltage or to a lower voltage supply.", 11 PVIN (power) "Power Input Supply. PVIN connects to the source of the internal P-channel power MOSFET. This pin is independent of SVIN and may be connected to the same voltage or to a lower voltage supply.", 12 NC "Can be connected to ground or left open.", 13 SW (power) "Switch Node. Connection to the inductor. These pins connect to the drains of the internal synchronous power MOSFET switches.", 14 SW (power) "Switch Node. Connection to the inductor. These pins connect to the drains of the internal synchronous power MOSFET switches.", 15 SW (power) "Switch Node. Connection to the inductor. These pins connect to the drains of the internal synchronous power MOSFET switches.", 16 SW (power) "Switch Node. Connection to the inductor. These pins connect to the drains of the internal synchronous power MOSFET switches.", 17 PVIN (power) "Power Input Supply. PVIN connects to the source of the internal P-channel power MOSFET. This pin is independent of SVIN and may be connected to the same voltage or to a lower voltage supply.", 18 SVIN (power) "Signal Input Supply. This pin powers the internal control circuitry and is monitored by the undervoltage lockout comparator.", 19 RUN (in), 20 PGOOD (oc) "Power Good. This open-drain output is pulled down to SGND on start-up and while the FB voltage is outside the power good voltage window. If the FB voltage increases and stays inside the power good window for more than 100us (See Datasheet)", 21 MODE (in) "Mode Selection. Tying the MODE pin to SVIN or SGND enables pulse-skipping mode or Burst  Mode operation (with an internal Burst Mode clamp),  respectively. If this pin is held at slightly higher than half of SVIN, forced (See Datasheet)", 22 VFB (in) "Voltage Feedback Input Pin. Senses the feedback voltage from the external resistive divider across the output.", 23 ITH "Error Amplifier Compensation. The current  comparator's threshold increases with this control voltage. Tying this pin to SVIN enables internal compensation  and AVP mode.", 24 TRACK/SS (in) "Track/External Soft-Start/External  Reference. Start-up behavior is programmable with the TRACK/SS pin: 1. Tying this pin to SVIN selects the internal soft-start circuit. 2. External soft-start timing can be programmed with (See Datasheet)", 25 EP (power) "Power Ground. This pin  connects to the source of the internal N-channel power  MOSFET. This pin should be connected close to the (-)  terminal of CIN and COUT"